# EAGLE library part 760871333 (library wurth_electronics_midcom_inc_v2-1)
Package Style: LEP28 Mounting: THT Pins: 11 pins Bobbin: 070-6132 Best pinouts for production vary per application. Please contact Wurth Electronics Midcom, Inc. for assistance with your custom design. Website: Wurth Electronics Midcom <http://www.we-online.com/midcom> Contact us Wurth Electronics Midcom, Inc. 121 Airport Dr. Watertown, SD 57201 Phone: (605) 886-4385 Fax: (605) 886-4486 E-Mail: midcom@we-online.com
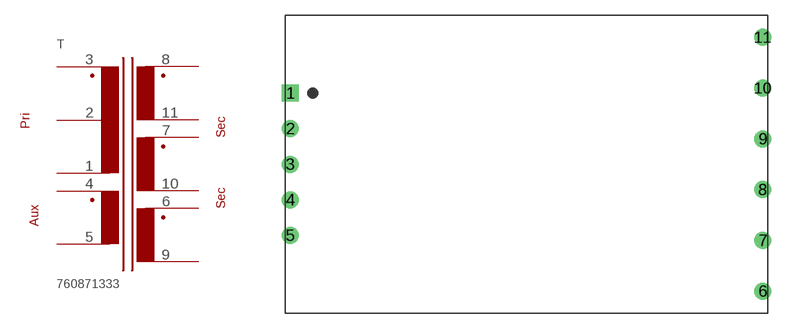
[diagram p153: symbol with the pads of LEP28_THT_V_11PIN_(6132); footprint LEP28_THT_V_11PIN_(6132)]

Designator prefix T

## 760871333  [LEP28_THT_V_11PIN_(6132)]
1  1  pas
2  2  pas
3  3  pas
4  4  pas
5  5  pas
6  6  pas
7  7  pas
8  8  pas
9  9  pas
10  10  pas
11  11  pas

## Footprint LEP28_THT_V_11PIN_(6132) (pad centres in mm)
Package Style: LEP28 Mounting: THT Pins: 11 Bobbin: 070-6132
drill 1.113 square: 1 -23.254,7.01
drill 1.113: 2 -23.254,3.505; 3 -23.254,0; 4 -23.254,-3.505; 5 -23.254,-7.01; 6 23.254,-12.509; 7 23.254,-7.506; 8 23.254,-2.502; 9 23.254,2.502; 10 23.254,7.506; 11 23.254,12.509